# EAGLE library part 620106131822 (library Wire_to_Board_Connectors_rev15d)
WR-WTB 2.00mm SMT Male Horizontal Shrouded Header, 6 Pins=>Code : Con_WTB_2.00_PCB_SMT_620106131822 <http://katalog.we-online.de/media/thumbs2/eican/thb_Con_WTB_2.00_PCB_SMT_6201xx131822_pf2.jpg> Details see: http://katalog.we-online.de/en/em/620_1xx_131_822 Created 2014-06-05, Karrer Zheng 2014 (C) Würth Elektronik
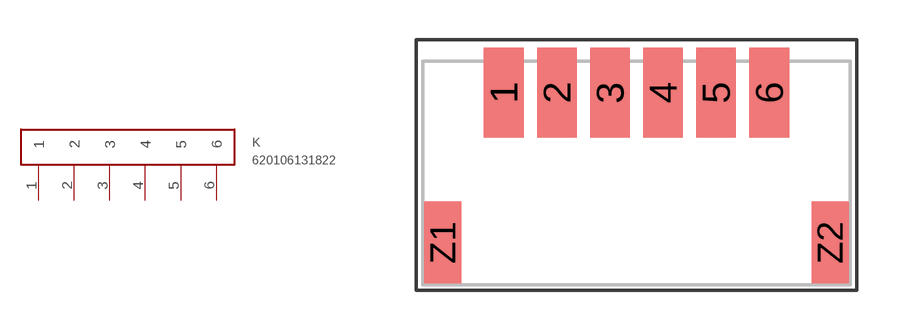
[diagram p40: symbol with the pads of 620106131822; footprint 620106131822]

Designator prefix K

## 620106131822  [620106131822]
1  1  pas
2  2  pas
3  3  pas
4  4  pas
5  5  pas
6  6  pas

## Footprint 620106131822 (pad centres in mm)
WR-WTB 2.00mm SMT Male Horizontal Shrouded Header, 6 Pins
smd 1.5 x 3.4: 1 -1,0; 2 1,0; 3 3,0; 4 5,0; 5 7,0; 6 9,0
smd 1.4 x 3.1: Z1 -3.3,-5.65; Z2 11.3,-5.65